# EAGLE library part FDC6506D (library Fairchild-AON)
Dual P-Channel Logic Level PowerTrench MOSFET -1.8A, -30 V RDS(on) = 0.170 Ohm @ VGS = -10 V RDS(on) = 0.280 Ohm @ VGS = -4.5 V
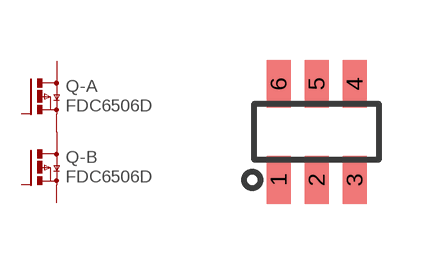
[diagram p0: symbol with the pads of SSOT-6; footprint SSOT-6]

Designator prefix Q; gates -A=FDC6506D -B=FDC6506D

## FDC6506D  [SSOT-6]
1  -A:G  pas
2  -B:S  pas
3  -B:G  pas
4  -B:D  pas
5  -A:S  pas
6  -A:D  pas

## Footprint SSOT-6 (pad centres in mm)
SuperSOT-6
smd 0.6 x 1.2: 1 -0.95,-1.2; 2 0,-1.2; 3 0.95,-1.206; 4 0.95,1.2; 5 0,1.2; 6 -0.95,1.2